# Altium footprint library HO2.8-1B.PcbLib: 1 footprints
Each footprint in its own frame and in the unit in brackets; x right, y up, seen from the top. Pads: shape width x height; smd on the part's side, far side on the other; paste and mask are expansions set on the pad; w line width, h text height; cw(c..) or ccw(c..) is an arc to the next point about the centre after c.
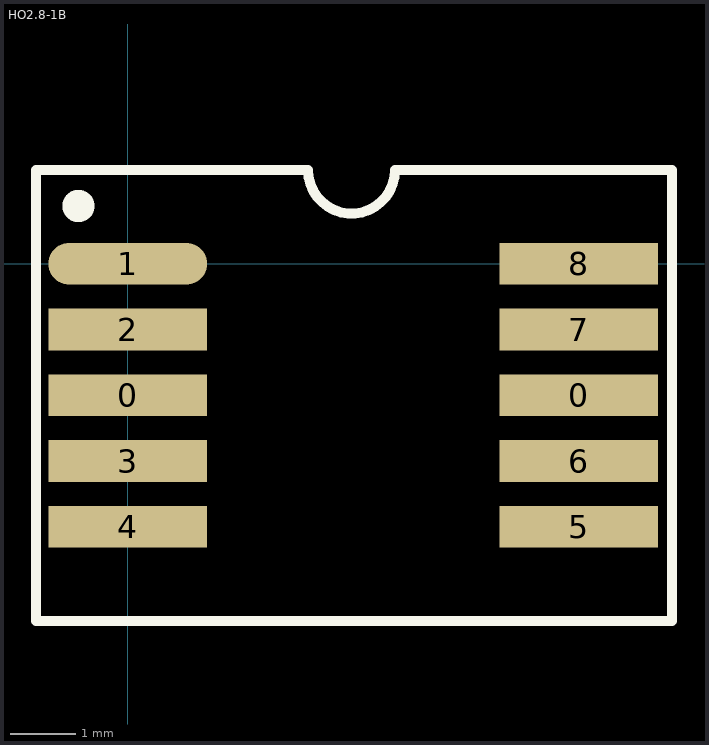
[diagram p0: the footprint, top view; thin cyan lines are the x and y axes]

## HO2.8-1B [mil]
pads (10):
  rect 95x25 smd: 0(0,-78.74) 0(270,-78.74) 2(0,-39.37) 3(0,-118.11) 4(0,-157.48) 5(270,-157.48) 6(270,-118.11) 7(270,-39.37) 8(270,0)
  oval 95x25 smd: 1(0,0)
Top Overlay:
  circle w10: c-29.48,34.59 r4.68
  lines w6: -55,-214 -55,56 108,56 ccw(c134,56) 160,56 326,56 326,-214 -55,-214
3D body "N02.8-1B.STEP": height 114.17, standoff 0, extent -29.53,-206.69 305.12,49.21